# Altium footprint library 1241160111.PcbLib: 1 footprints
Each footprint in its own frame and in the unit in brackets; x right, y up, seen from the top. Pads: shape width x height; smd on the part's side, far side on the other; paste and mask are expansions set on the pad; w line width, h text height; cw(c..) or ccw(c..) is an arc to the next point about the centre after c.
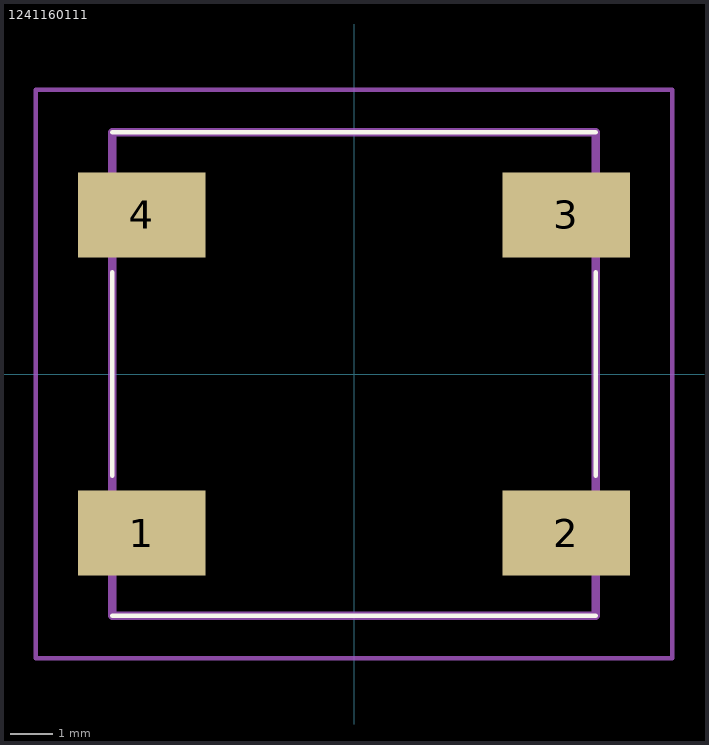
[diagram p0: the footprint, top view; thin cyan lines are the x and y axes]

## 1241160111 [mm]
pads (4):
  rect 3x2 smd: 1(-5,-3.75) 2(5,-3.75) 3(5,3.75) 4(-5,3.75)
Top Overlay:
  lines w0.1: -5.7,-5.7 5.7,-5.7 ; -5.7,-2.4 -5.7,2.4 ; -5.7,5.7 5.7,5.7 ; 5.7,-2.4 5.7,2.4
Mechanical 15:
  lines w0.2: -5.7,-5.7 5.7,-5.7 5.7,5.7 -5.7,5.7 -5.7,-5.7
Mechanical 20:
  lines w0.1: -7.5,-6.7 7.5,-6.7 7.5,6.7 -7.5,6.7 -7.5,-6.7
3D body "1241.1601.11.stp": height 5.8, standoff -4.65, extent -10,-3.376 10,3.376